# EAGLE library part ISO1042 (library Public)
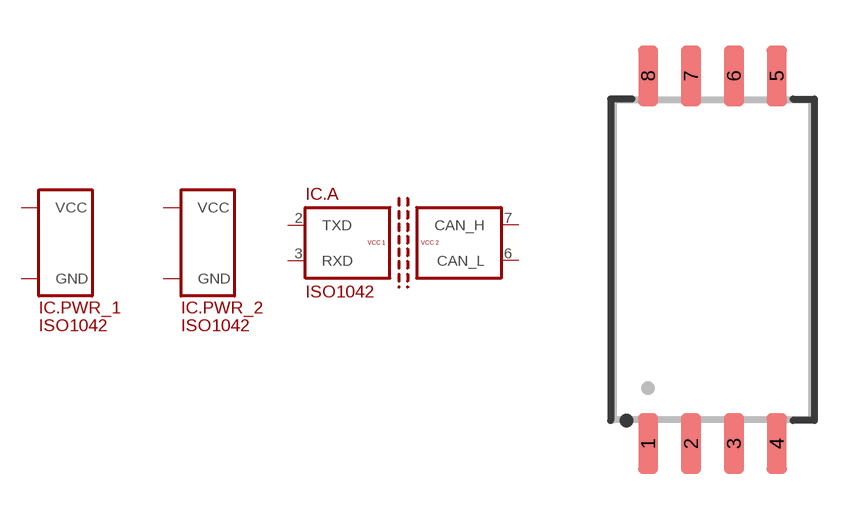
[diagram p167: symbol with the pads of SO8_WIDE; footprint SO8_WIDE]

Designator prefix IC; gates .PWR_1=SUPPLY_VCC/GND .PWR_2=SUPPLY_VCC/GND .A=CAN_TRANSCEIVER_ISOLATED

## ISO1042  [SO8_WIDE]
1  .PWR_1:VCC
2  .A:TXD
3  .A:RXD
4  .PWR_1:GND
5  .PWR_2:GND
6  .A:CAN_L
7  .A:CAN_H
8  .PWR_2:VCC

## Footprint SO8_WIDE (pad centres in mm)
smd 0.6 x 1.8: 1 -1.905,-5.45; 2 -0.635,-5.45; 3 0.635,-5.45; 4 1.905,-5.45; 5 1.905,5.45; 6 0.635,5.45; 7 -0.635,5.45; 8 -1.905,5.45